# EAGLE library part L293 (library 0_MyLIB)
PUSH-PULL 4 CHANNEL DRIVER
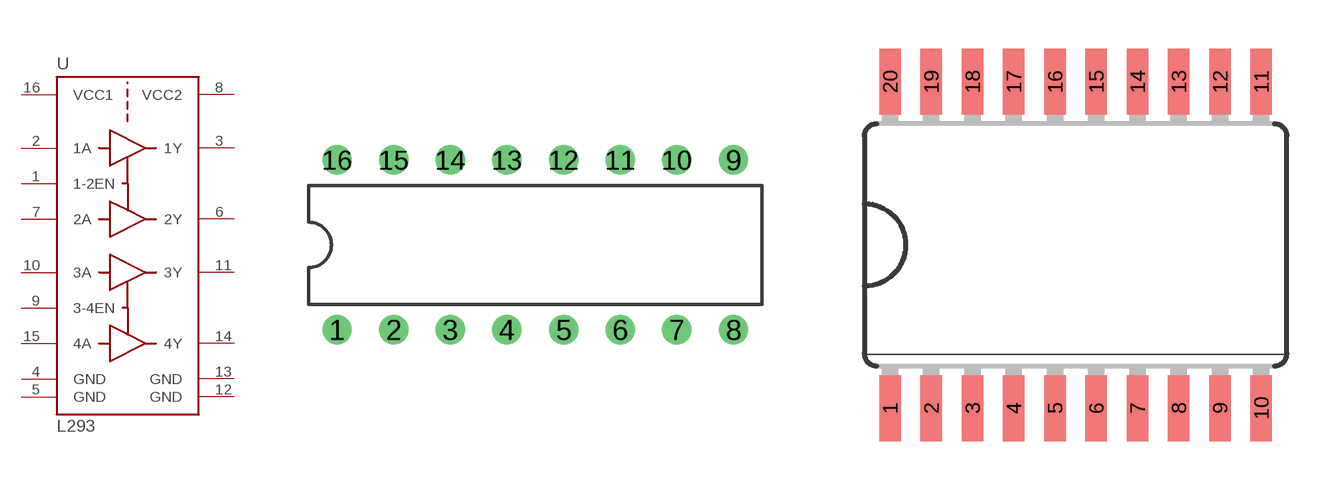
[diagram p10: symbol with the pads of DIL16; footprints DIL16, SO20W]

Designator prefix U

## L293NE (DIGIKEY_PN: 296-9519-5-ND)  [DIL16]
1  1-2EN  in
2  1A  in
3  1Y  out
4  GND  pwr
5  GND  pwr
6  2Y  out
7  2A  in
8  VCC2  pwr
9  3-4EN  in
10  3A  in
11  3Y  out
12  GND  pwr
13  GND  pwr
14  4Y  out
15  4A  in
16  VCC1  pwr

## L293DD (DIGIKEY_PN: 497-1390-5-ND)  [SO20W]

## L293D (DIGIKEY_PN: 497-2936-5-ND)  [DIL16]
Pads as for DIL16

## Footprint DIL16 (pad centres in mm)
Dual In Line Package
drill 0.813: 1 -8.89,-3.81; 2 -6.35,-3.81; 3 -3.81,-3.81; 4 -1.27,-3.81; 5 1.27,-3.81; 6 3.81,-3.81; 7 6.35,-3.81; 8 8.89,-3.81; 9 8.89,3.81; 10 6.35,3.81; 11 3.81,3.81; 12 1.27,3.81; 13 -1.27,3.81; 14 -3.81,3.81; 15 -6.35,3.81; 16 -8.89,3.81

## Footprint SO20W (pad centres in mm)
Wide Small Outline package 300 mil
smd 0.66 x 2.032: 1 -5.715,-5.029; 2 -4.445,-5.029; 3 -3.175,-5.029; 4 -1.905,-5.029; 5 -0.635,-5.029; 6 0.635,-5.029; 7 1.905,-5.029; 8 3.175,-5.029; 9 4.445,-5.029; 10 5.715,-5.029; 11 5.715,5.029; 12 4.445,5.029; 13 3.175,5.029; 14 1.905,5.029; 15 0.635,5.029; 16 -0.635,5.029; 17 -1.905,5.029; 18 -3.175,5.029; 19 -4.445,5.029; 20 -5.715,5.029